# EAGLE library part MC33290 (library mastrogippo)
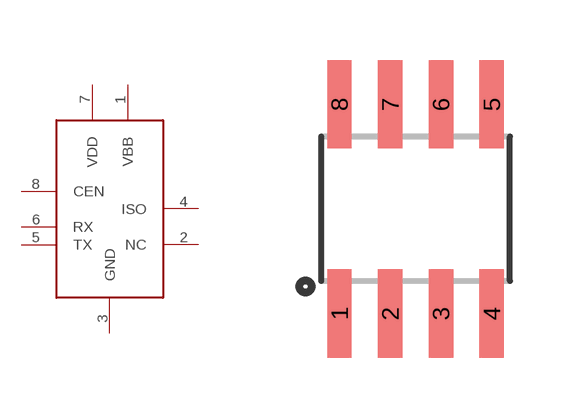
[diagram p14: symbol with the pads of SO08; footprint SO08]

Designator prefix -

## MC33290  [SO08]
1  VBB
2  NC
3  GND
4  ISO
5  TX
6  RX
7  VDD
8  CEN

## Footprint SO08 (pad centres in mm)
smd 0.61 x 2.21: 1 -1.905,-2.616; 2 -0.635,-2.616; 3 0.635,-2.616; 4 1.905,-2.616; 5 1.905,2.616; 6 0.635,2.616; 7 -0.635,2.616; 8 -1.905,2.616